# Altium integrated library Texas Instruments Power Management PWM Controller.IntLib: 1227 symbols (part 37 of 49)
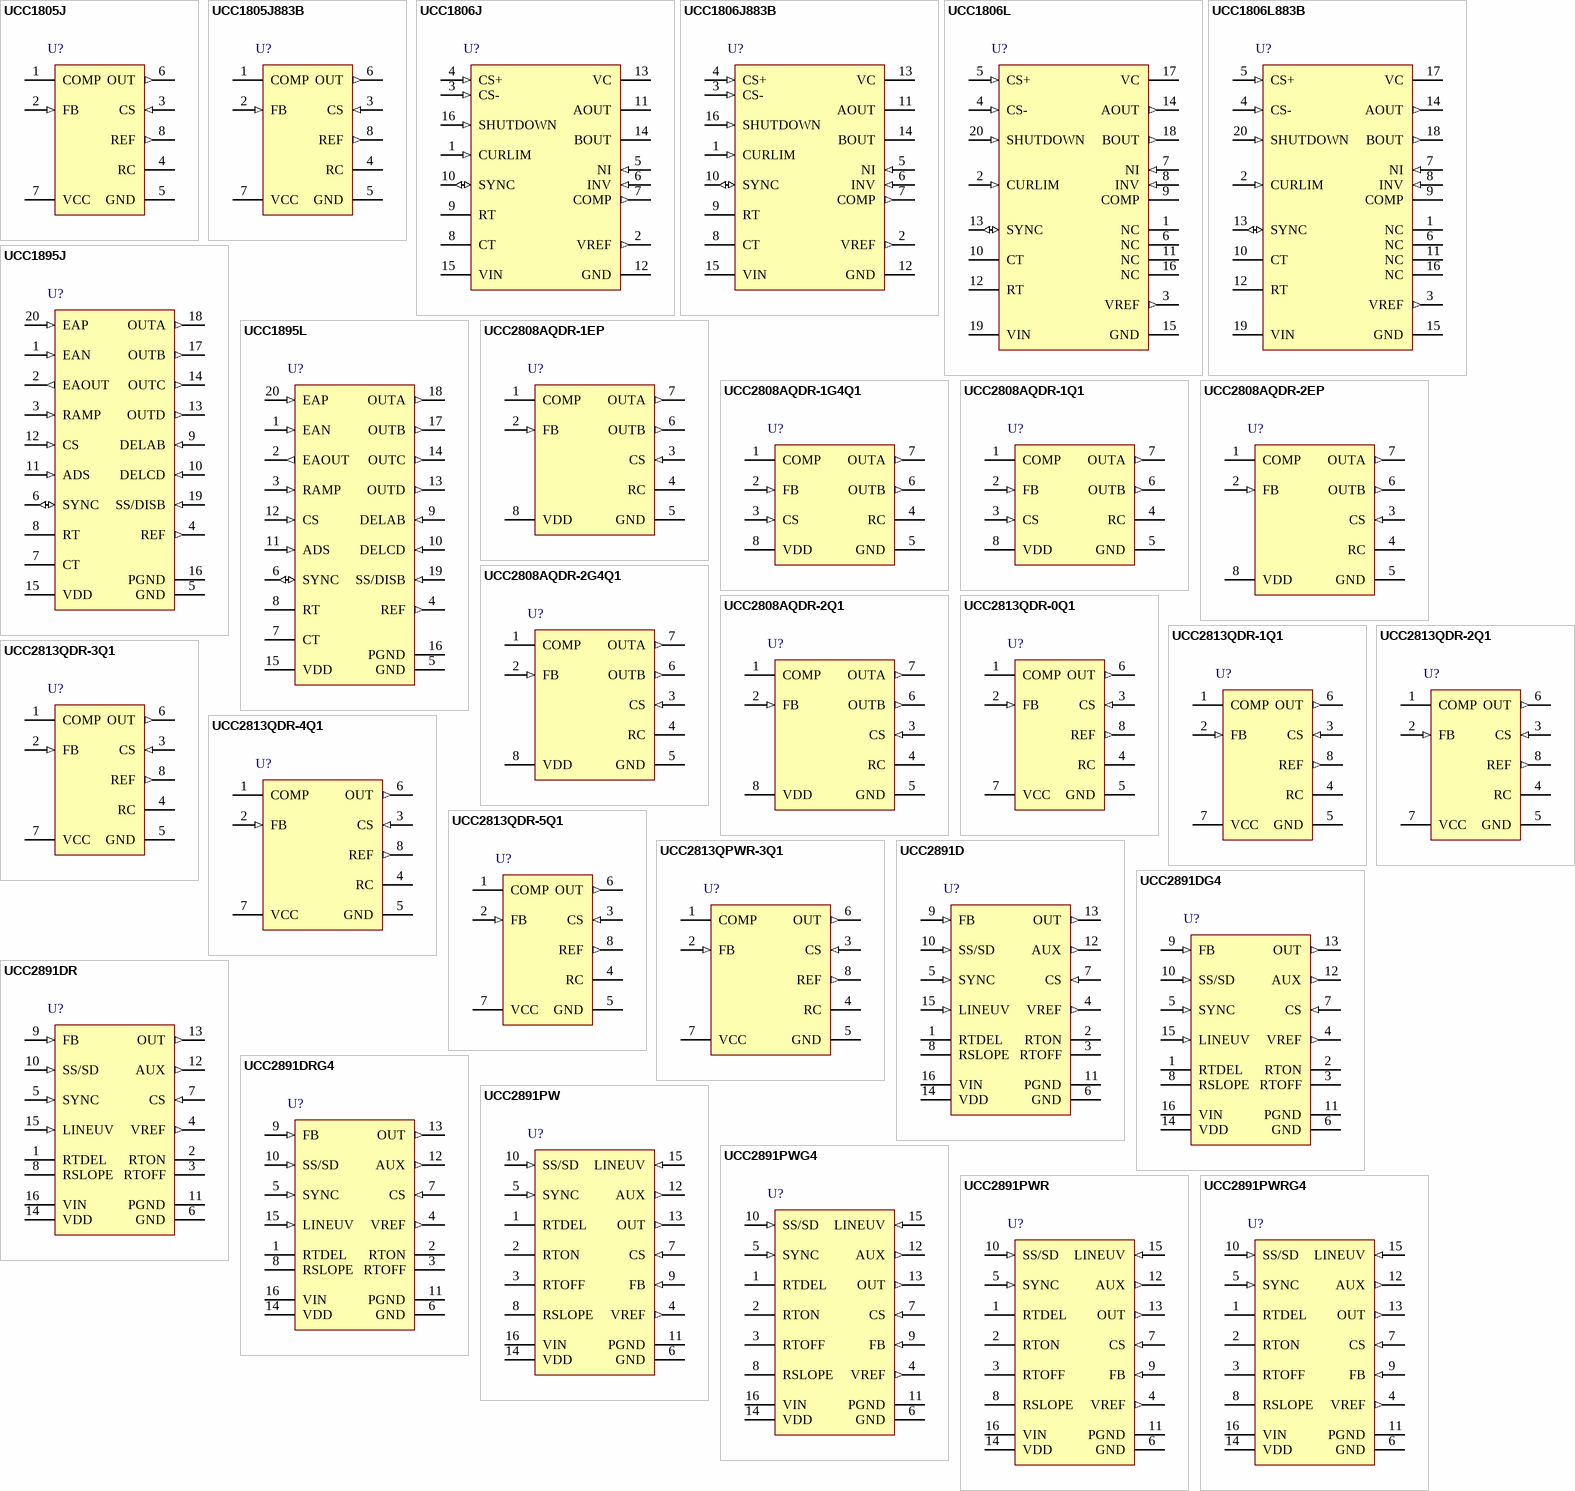
[diagram p79: symbols UCC1805J to UCC2891PWRG4]

## UCC2891DRG4
designator U?
Current-Mode Active Clamp PWM Controller, -40 to +85 degC, 16-pin SOIC (D), Green (RoHS & no Sb/Br); PartNumber: UCC2891DRG4; Manufacturer: Texas Instruments; Frequency(Max)(kHz): 1000; Input Line Monitor: TRUE; Rating: Catalog; Regulated Outputs(#): 1; Topology: Flyback, Forward; UVLO Thresholds On/Off(V): 13.0/8.0; DatasheetVersion: SLUS542F; PackageVersion: revM, Jun-2011; PackageReference: D16; PackageDescription: 16-Pin Plastic Small Outline Integrated Circuit, 9.9 x 3.9 mm, Pitch 1.27 mm Pitch; Supplier 1: Digi-Key; Supplier Part Number 1: UCC2891DRG4-ND; Supplier 2: Newark; Supplier Part Number 2: 54K2053; Supplier 3: Mouser; Supplier Part Number 3: 595-UCC2891DRG4; Control Method: Current; Eco-Plan: Green (RoHS & no Sb/Br); SubFamily: PWM Controller; Mounting Technology: Surface Mount; Code_JEDEC: MS-012AC; ComponentLink1Description: Datasheet; ComponentLink1URL: http://www.ti.com/general/docs/lit/getliterature.tsp?genericPartNumber=UCC2891&fileType=pdf
footprint D16_N (SOIC, 16-Leads, Body 9.9x3.9mm, Pitch 1.27mm, IPC Medium Density)
footprint D16_L (SOIC, 16-Leads, Body 9.9x3.9mm, Pitch 1.27mm, IPC High Density)
footprint D16_M (SOIC, 16-Leads, Body 9.9x3.9mm, Pitch 1.27mm, IPC Low Density)
pins: 1 RTDEL "A resistor from this pin to GND programs the turn-on delay of the two gate drive outputs to accommodate the resonant transitions of the active clamp power converter.", 2 RTON "A resistor connected from this pin to GND programs an internal current source that charges the internal timing capacitor", 3 RTOFF "A resistor connected from this pin to GND programs an internal current source that discharges the internal timing capacitor.", 4 VREF (out) "This is the 5-V reference voltage that can be utilized for an external load of up to 5 mA. Since this reference provides the supply rail for internal logic, it should be bypassed to AGND as close as possible to the device. (See Datasheet)", 5 SYNC (in) "The SYNC pin serves as a unidirectional synchronization input for the internal oscillator. The synchronization function is implemented such that the user programmable maximum duty cycle (set by RTON and RTOFF) remains (See Datasheet)", 6 GND (power) "This pin serves as the fundamental analog ground for the PWM control circuitry. This pin should be connected to PGND directly at the device.", 7 CS (in) "This pin is used to sense the peak current utilized for current mode control and for current limiting functions. The peak signal which can be applied to this pin before pulse-by-pulse current limiting activates is (See Datasheet)", 8 RSLOPE "A resistor connected from this pin to GND programs an internal current source that sets the slope compensation ramp for the current mode control circuitry.", 9 FB (in) "This pin is used to bring the error signal from an external optocoupler or error amplifier into the PWM control circuitry. Often, there is a resistor tied from FB to VREF, and an optocoupler is used to pull the control pin (See Datasheet)", 10 SS/SD (in) "A capacitor from SS/SD to ground is charged by an internal current source of IRTON to program the soft-start interval for the controller. During a fault condition this capacitor is discharged by a current source equal to (See Datasheet)", 11 PGND (power) "The PGND should serve as the current return for the high-current output drivers OUT and AUX. Ideally, the current path from the outputs to the switching devices, and back would be as short as possible, and enclose a minimal (See Datasheet)", 12 AUX (out) "This output drives the auxiliary clamp MOSFET which is turned on when the main PWM switching device is turned off. The AUX pin can directly drive the auxiliary switch with 2-A source turn-on current and 2-A sink turn-off (See Datasheet)", 13 OUT (out) "This output pin drives the main PWM switching element MOSFET in an active clamp controller. It can directly drive an N-channel device with 2-A source turn-on current and 2-A sink turn-off current. A 10?k ohm resistor is (See Datasheet)", 14 VDD (power) "This is the power supply for the device. There should be a 1-μF capacitor directly from VDD to PGND. The capacitor value should be minimum 10 times greater than that on VREF. PGND and GND should be connected externally and (See Datasheet)", 15 LINEUV (in) "This pin provides a means to accurately enable/disable the power converter stage by monitoring the bulk input voltage or another parameter. When the circuit initially starts (or restarts from a disabled condition), a rising (See Datasheet)", 16 VIN (power) "For the UCC2891, this pin is connected to the input power rail directly. Inside the device, a high-voltage start-up device is utilized to provide the start-up current for the controller until a bootstrap type bias rail (See Datasheet)"

## UCC2891PW
designator U?
Current-Mode Active Clamp PWM Controller, -40 to +85 degC, 16-pin TSSOP (PW), Green (RoHS & no Sb/Br); PartNumber: UCC2891PW; Manufacturer: Texas Instruments; Frequency(Max)(kHz): 1000; Input Line Monitor: TRUE; Rating: Catalog; Regulated Outputs(#): 1; Topology: Flyback, Forward; UVLO Thresholds On/Off(V): 13.0/8.0; DatasheetVersion: SLUS542F; PackageVersion: revG, Feb-2011; PackageReference: PW16; PackageDescription: 16-Pin Plastic Thin Small Outline Package 5 x 4.4 mm Body ,0.65 mm Pitch; Supplier 1: Digi-Key; Supplier Part Number 1: 296-17240-5-ND; Supplier 2: Newark; Supplier Part Number 2: 21J9294; Supplier 3: Mouser; Supplier Part Number 3: 595-UCC2891PW; Control Method: Current; Eco-Plan: Green (RoHS & no Sb/Br); SubFamily: PWM Controller; Mounting Technology: Surface Mount; Code_JEDEC: MO-153; ComponentLink1Description: Datasheet; ComponentLink1URL: http://www.ti.com/general/docs/lit/getliterature.tsp?genericPartNumber=UCC2891&fileType=pdf
footprint PW16_N (TSOP, 16-Leads, Body 5x4.4mm, Pitch 0.65mm, IPC Medium Density)
footprint PW16_L (TSOP, 16-Leads, Body 5x4.4mm, Pitch 0.65mm, IPC High Density)
footprint PW16_M (TSOP, 16-Leads, Body 5x4.4mm, Pitch 0.65mm, IPC Low Density)
pins: 1 RTDEL "A resistor from this pin to GND programs the turn-on delay of the two gate drive outputs to accommodate the resonant transitions of the active clamp power converter.", 2 RTON "A resistor connected from this pin to GND programs an internal current source that charges the internal timing capacitor.", 3 RTOFF "A resistor connected from this pin to GND programs an internal current source that discharges the internal timing capacitor.", 4 VREF (out) "This is the 5-V reference voltage that can be utilized for an external load of up to 5 mA. Since this reference provides the supply rail for internal logic, it should be bypassed to AGND as close as possible to the device. (See Datasheet)", 5 SYNC (in) "The SYNC pin serves as a unidirectional synchronization input for the internal oscillator. The synchronization function is implemented such that the user programmable maximum duty cycle (set by RTON and RTOFF) remains (See Datasheet)", 6 GND (power) "This pin serves as the fundamental analog ground for the PWM control circuitry. This pin should be connected to PGND directly at the device.", 7 CS (in) "This pin is used to sense the peak current utilized for current mode control and for current limiting functions. The peak signal which can be applied to this pin before pulse-by-pulse current limiting activates is (See Datasheet)", 8 RSLOPE "A resistor connected from this pin to GND programs an internal current source that sets the slope compensation ramp for the current mode control circuitry.", 9 FB (in) "This pin is used to bring the error signal from an external optocoupler or error amplifier into the PWM control circuitry. Often, there is a resistor tied from FB to VREF, and an optocoupler is used to pull the control pin (See Datasheet)", 10 SS/SD (in) "A capacitor from SS/SD to ground is charged by an internal current source of IRTON to program the soft-start interval for the controller. During a fault condition this capacitor is discharged by a current source equal to (See Datasheet)", 11 PGND (power) "The PGND should serve as the current return for the high-current output drivers OUT and AUX. Ideally, the current path from the outputs to the switching devices, and back would be as short as possible, and enclose a minimal (See Datasheet)", 12 AUX (out) "This output drives the auxiliary clamp MOSFET which is turned on when the main PWM switching device is turned off. The AUX pin can directly drive the auxiliary switch with 2-A source turn-on current and 2-A sink turn-off (See Datasheet)", 13 OUT (out) "This output pin drives the main PWM switching element MOSFET in an active clamp controller. It can directly drive an N-channel device with 2-A source turn-on current and 2-A sink turn-off current. A 10-k ohm resistor is (See Datasheet)", 14 VDD (power) "This is the power supply for the device. There should be a 1-uF capacitor directly from VDD to PGND. The capacitor value should be minimum 10 times greater than that on VREF. PGND and GND should be connected externally and (See Datasheet)", 15 LINEUV (in) "This pin provides a means to accurately enable/disable the power converter stage by monitoring the bulk input voltage or another parameter. When the circuit initially starts (or restarts from a disabled condition), a rising (See Datasheet)", 16 VIN (power) "For the UCC2891 and UCC2893, this pin is connected to the input power rail directly. Inside the device, a high-voltage start-up device is utilized to provide the start-up current for the controller until a bootstrap type (See Datasheet)"

## UCC2891PWG4
designator U?
Current-Mode Active Clamp PWM Controller, -40 to +85 degC, 16-pin TSSOP (PW), Green (RoHS & no Sb/Br); PartNumber: UCC2891PWG4; Manufacturer: Texas Instruments; Frequency(Max)(kHz): 1000; Input Line Monitor: TRUE; Rating: Catalog; Regulated Outputs(#): 1; Topology: Flyback, Forward; UVLO Thresholds On/Off(V): 13.0/8.0; DatasheetVersion: SLUS542F; PackageVersion: revG, Feb-2011; PackageReference: PW16; PackageDescription: 16-Pin Plastic Thin Small Outline Package 5 x 4.4 mm Body ,0.65 mm Pitch; Supplier 1: Digi-Key; Supplier Part Number 1: UCC2891PWG4-ND; Supplier 2: Newark; Supplier Part Number 2: 81K4484; Supplier 3: Mouser; Supplier Part Number 3: 595-UCC2891PWG4; Control Method: Current; Eco-Plan: Green (RoHS & no Sb/Br); SubFamily: PWM Controller; Mounting Technology: Surface Mount; Code_JEDEC: MO-153; ComponentLink1Description: Datasheet; ComponentLink1URL: http://www.ti.com/general/docs/lit/getliterature.tsp?genericPartNumber=UCC2891&fileType=pdf
footprint PW16_N (TSOP, 16-Leads, Body 5x4.4mm, Pitch 0.65mm, IPC Medium Density)
footprint PW16_L (TSOP, 16-Leads, Body 5x4.4mm, Pitch 0.65mm, IPC High Density)
footprint PW16_M (TSOP, 16-Leads, Body 5x4.4mm, Pitch 0.65mm, IPC Low Density)
pins: 1 RTDEL "A resistor from this pin to GND programs the turn-on delay of the two gate drive outputs to accommodate the resonant transitions of the active clamp power converter.", 2 RTON "A resistor connected from this pin to GND programs an internal current source that charges the internal timing capacitor.", 3 RTOFF "A resistor connected from this pin to GND programs an internal current source that discharges the internal timing capacitor.", 4 VREF (out) "This is the 5-V reference voltage that can be utilized for an external load of up to 5 mA. Since this reference provides the supply rail for internal logic, it should be bypassed to AGND as close as possible to the device. (See Datasheet)", 5 SYNC (in) "The SYNC pin serves as a unidirectional synchronization input for the internal oscillator. The synchronization function is implemented such that the user programmable maximum duty cycle (set by RTON and RTOFF) remains (See Datasheet)", 6 GND (power) "This pin serves as the fundamental analog ground for the PWM control circuitry. This pin should be connected to PGND directly at the device.", 7 CS (in) "This pin is used to sense the peak current utilized for current mode control and for current limiting functions. The peak signal which can be applied to this pin before pulse-by-pulse current limiting activates is (See Datasheet)", 8 RSLOPE "A resistor connected from this pin to GND programs an internal current source that sets the slope compensation ramp for the current mode control circuitry.", 9 FB (in) "This pin is used to bring the error signal from an external optocoupler or error amplifier into the PWM control circuitry. Often, there is a resistor tied from FB to VREF, and an optocoupler is used to pull the control pin (See Datasheet)", 10 SS/SD (in) "A capacitor from SS/SD to ground is charged by an internal current source of IRTON to program the soft-start interval for the controller. During a fault condition this capacitor is discharged by a current source equal to (See Datasheet)", 11 PGND (power) "The PGND should serve as the current return for the high-current output drivers OUT and AUX. Ideally, the current path from the outputs to the switching devices, and back would be as short as possible, and enclose a minimal (See Datasheet)", 12 AUX (out) "This output drives the auxiliary clamp MOSFET which is turned on when the main PWM switching device is turned off. The AUX pin can directly drive the auxiliary switch with 2-A source turn-on current and 2-A sink turn-off (See Datasheet)", 13 OUT (out) "This output pin drives the main PWM switching element MOSFET in an active clamp controller. It can directly drive an N-channel device with 2-A source turn-on current and 2-A sink turn-off current. A 10-k ohm resistor is (See Datasheet)", 14 VDD (power) "This is the power supply for the device. There should be a 1-uF capacitor directly from VDD to PGND. The capacitor value should be minimum 10 times greater than that on VREF. PGND and GND should be connected externally and (See Datasheet)", 15 LINEUV (in) "This pin provides a means to accurately enable/disable the power converter stage by monitoring the bulk input voltage or another parameter. When the circuit initially starts (or restarts from a disabled condition), a rising (See Datasheet)", 16 VIN (power) "For the UCC2891 and UCC2893, this pin is connected to the input power rail directly. Inside the device, a high-voltage start-up device is utilized to provide the start-up current for the controller until a bootstrap type (See Datasheet)"

## UCC2891PWR
designator U?
Active Clamp PWM Controller with Current Control, -40 to +85 degC, 16-pin TSSOP (PW), Green (RoHS & no Sb/Br); PartNumber: UCC2891PWR; Manufacturer: Texas Instruments; Frequency(Max)(kHz): 1000; Input Line Monitor: TRUE; Rating: Catalog; Regulated Outputs(#): 1; Topology: Flyback, Forward; UVLO Thresholds On/Off(V): 13.0/8.0; DatasheetVersion: SLUS542F; PackageVersion: revG, Feb-2011; PackageReference: PW16; PackageDescription: 16-Pin Plastic Thin Small Outline Package 5 x 4.4 mm Body ,0.65 mm Pitch; Supplier 1: Newark; Supplier Part Number 1: 21J9295; Supplier 2: Mouser; Supplier Part Number 2: 595-UCC2891PWR; Control Method: Current; Eco-Plan: Green (RoHS & no Sb/Br); SubFamily: PWM Controller; Mounting Technology: Surface Mount; Code_JEDEC: MO-153; ComponentLink1Description: Datasheet; ComponentLink1URL: http://www.ti.com/general/docs/lit/getliterature.tsp?genericPartNumber=UCC2891&fileType=pdf
footprint PW16_N (TSOP, 16-Leads, Body 5x4.4mm, Pitch 0.65mm, IPC Medium Density)
footprint PW16_L (TSOP, 16-Leads, Body 5x4.4mm, Pitch 0.65mm, IPC High Density)
footprint PW16_M (TSOP, 16-Leads, Body 5x4.4mm, Pitch 0.65mm, IPC Low Density)
pins: 1 RTDEL "A resistor from this pin to GND programs the turn-on delay of the two gate drive outputs to accommodate the resonant transitions of the active clamp power converter.", 2 RTON "A resistor connected from this pin to GND programs an internal current source that charges the internal timing capacitor.", 3 RTOFF "A resistor connected from this pin to GND programs an internal current source that discharges the internal timing capacitor.", 4 VREF (out) "This is the 5-V reference voltage that can be utilized for an external load of up to 5 mA. Since this reference provides the supply rail for internal logic, it should be bypassed to AGND as close as possible to the device. (See Datasheet)", 5 SYNC (in) "The SYNC pin serves as a unidirectional synchronization input for the internal oscillator. The synchronization function is implemented such that the user programmable maximum duty cycle (set by RTON and RTOFF) remains (See Datasheet)", 6 GND (power) "This pin serves as the fundamental analog ground for the PWM control circuitry. This pin should be connected to PGND directly at the device.", 7 CS (in) "This pin is used to sense the peak current utilized for current mode control and for current limiting functions. The peak signal which can be applied to this pin before pulse-by-pulse current limiting activates is (See Datasheet)", 8 RSLOPE "A resistor connected from this pin to GND programs an internal current source that sets the slope compensation ramp for the current mode control circuitry.", 9 FB (in) "This pin is used to bring the error signal from an external optocoupler or error amplifier into the PWM control circuitry. Often, there is a resistor tied from FB to VREF, and an optocoupler is used to pull the control pin (See Datasheet)", 10 SS/SD (in) "A capacitor from SS/SD to ground is charged by an internal current source of IRTON to program the soft-start interval for the controller. During a fault condition this capacitor is discharged by a current source equal to (See Datasheet)", 11 PGND (power) "The PGND should serve as the current return for the high-current output drivers OUT and AUX. Ideally, the current path from the outputs to the switching devices, and back would be as short as possible, and enclose a minimal (See Datasheet)", 12 AUX (out) "This output drives the auxiliary clamp MOSFET which is turned on when the main PWM switching device is turned off. The AUX pin can directly drive the auxiliary switch with 2-A source turn-on current and 2-A sink turn-off (See Datasheet)", 13 OUT (out) "This output pin drives the main PWM switching element MOSFET in an active clamp controller. It can directly drive an N-channel device with 2-A source turn-on current and 2-A sink turn-off current. A 10-k ohm resistor is (See Datasheet)", 14 VDD (power) "This is the power supply for the device. There should be a 1-uF capacitor directly from VDD to PGND. The capacitor value should be minimum 10 times greater than that on VREF. PGND and GND should be connected externally and (See Datasheet)", 15 LINEUV (in) "This pin provides a means to accurately enable/disable the power converter stage by monitoring the bulk input voltage or another parameter. When the circuit initially starts (or restarts from a disabled condition), a rising (See Datasheet)", 16 VIN (power) "For the UCC2891 and UCC2893, this pin is connected to the input power rail directly. Inside the device, a high-voltage start-up device is utilized to provide the start-up current for the controller until a bootstrap type (See Datasheet)"

## UCC2891PWRG4
designator U?
Active Clamp PWM Controller with Current Control, -40 to +85 degC, 16-pin TSSOP (PW), Green (RoHS & no Sb/Br); PartNumber: UCC2891PWRG4; Manufacturer: Texas Instruments; Frequency(Max)(kHz): 1000; Rating: Catalog; Regulated Outputs(#): 1; Topology: Flyback, Forward; UVLO Thresholds On/Off(V): 13.0/8.0; DatasheetVersion: SLUS542F; PackageVersion: revG, Feb-2011; PackageReference: PW16; PackageDescription: 16-Pin Plastic Thin Small Outline Package 5 x 4.4 mm Body ,0.65 mm Pitch; Supplier 1: Newark; Supplier Part Number 1: 54K2054; Supplier 2: Mouser; Supplier Part Number 2: 595-UCC2891PWRG4; Control Method: Current; Eco-Plan: Green (RoHS & no Sb/Br); SubFamily: PWM Controller; Mounting Technology: Surface Mount; Code_JEDEC: MO-153; ComponentLink1Description: Datasheet; ComponentLink1URL: http://www.ti.com/general/docs/lit/getliterature.tsp?genericPartNumber=UCC2891&fileType=pdf; ComponentLink2Description: URL Link1; ComponentLink2URL: Samples URL:http://www.ti.com/lit/ds/symlink/ucc2891.pdf
footprint PW16_N (TSOP, 16-Leads, Body 5x4.4mm, Pitch 0.65mm, IPC Medium Density)
footprint PW16_L (TSOP, 16-Leads, Body 5x4.4mm, Pitch 0.65mm, IPC High Density)
footprint PW16_M (TSOP, 16-Leads, Body 5x4.4mm, Pitch 0.65mm, IPC Low Density)
pins: 1 RTDEL "A resistor from this pin to GND programs the turn-on delay of the two gate drive outputs to accommodate the resonant transitions of the active clamp power converter.", 2 RTON "A resistor connected from this pin to GND programs an internal current source that charges the internal timing capacitor.", 3 RTOFF "A resistor connected from this pin to GND programs an internal current source that discharges the internal timing capacitor.", 4 VREF (out) "This is the 5-V reference voltage that can be utilized for an external load of up to 5 mA. Since this reference provides the supply rail for internal logic, it should be bypassed to AGND as close as possible to the device. (See Datasheet)", 5 SYNC (in) "The SYNC pin serves as a unidirectional synchronization input for the internal oscillator. The synchronization function is implemented such that the user programmable maximum duty cycle (set by RTON and RTOFF) remains (See Datasheet)", 6 GND (power) "This pin serves as the fundamental analog ground for the PWM control circuitry. This pin should be connected to PGND directly at the device.", 7 CS (in) "This pin is used to sense the peak current utilized for current mode control and for current limiting functions. The peak signal which can be applied to this pin before pulse-by-pulse current limiting activates is (See Datasheet)", 8 RSLOPE "A resistor connected from this pin to GND programs an internal current source that sets the slope compensation ramp for the current mode control circuitry.", 9 FB (in) "This pin is used to bring the error signal from an external optocoupler or error amplifier into the PWM control circuitry. Often, there is a resistor tied from FB to VREF, and an optocoupler is used to pull the control pin (See Datasheet)", 10 SS/SD (in) "A capacitor from SS/SD to ground is charged by an internal current source of IRTON to program the soft-start interval for the controller. During a fault condition this capacitor is discharged by a current source equal to (See Datasheet)", 11 PGND (power) "The PGND should serve as the current return for the high-current output drivers OUT and AUX. Ideally, the current path from the outputs to the switching devices, and back would be as short as possible, and enclose a minimal (See Datasheet)", 12 AUX (out) "This output drives the auxiliary clamp MOSFET which is turned on when the main PWM switching device is turned off. The AUX pin can directly drive the auxiliary switch with 2-A source turn-on current and 2-A sink turn-off (See Datasheet)", 13 OUT (out) "This output pin drives the main PWM switching element MOSFET in an active clamp controller. It can directly drive an N-channel device with 2-A source turn-on current and 2-A sink turn-off current. A 10-k ohm resistor is (See Datasheet)", 14 VDD (power) "This is the power supply for the device. There should be a 1-uF capacitor directly from VDD to PGND. The capacitor value should be minimum 10 times greater than that on VREF. PGND and GND should be connected externally and (See Datasheet)", 15 LINEUV (in) "This pin provides a means to accurately enable/disable the power converter stage by monitoring the bulk input voltage or another parameter. When the circuit initially starts (or restarts from a disabled condition), a rising (See Datasheet)", 16 VIN (power) "For the UCC2891 and UCC2893, this pin is connected to the input power rail directly. Inside the device, a high-voltage start-up device is utilized to provide the start-up current for the controller until a bootstrap type (See Datasheet)"

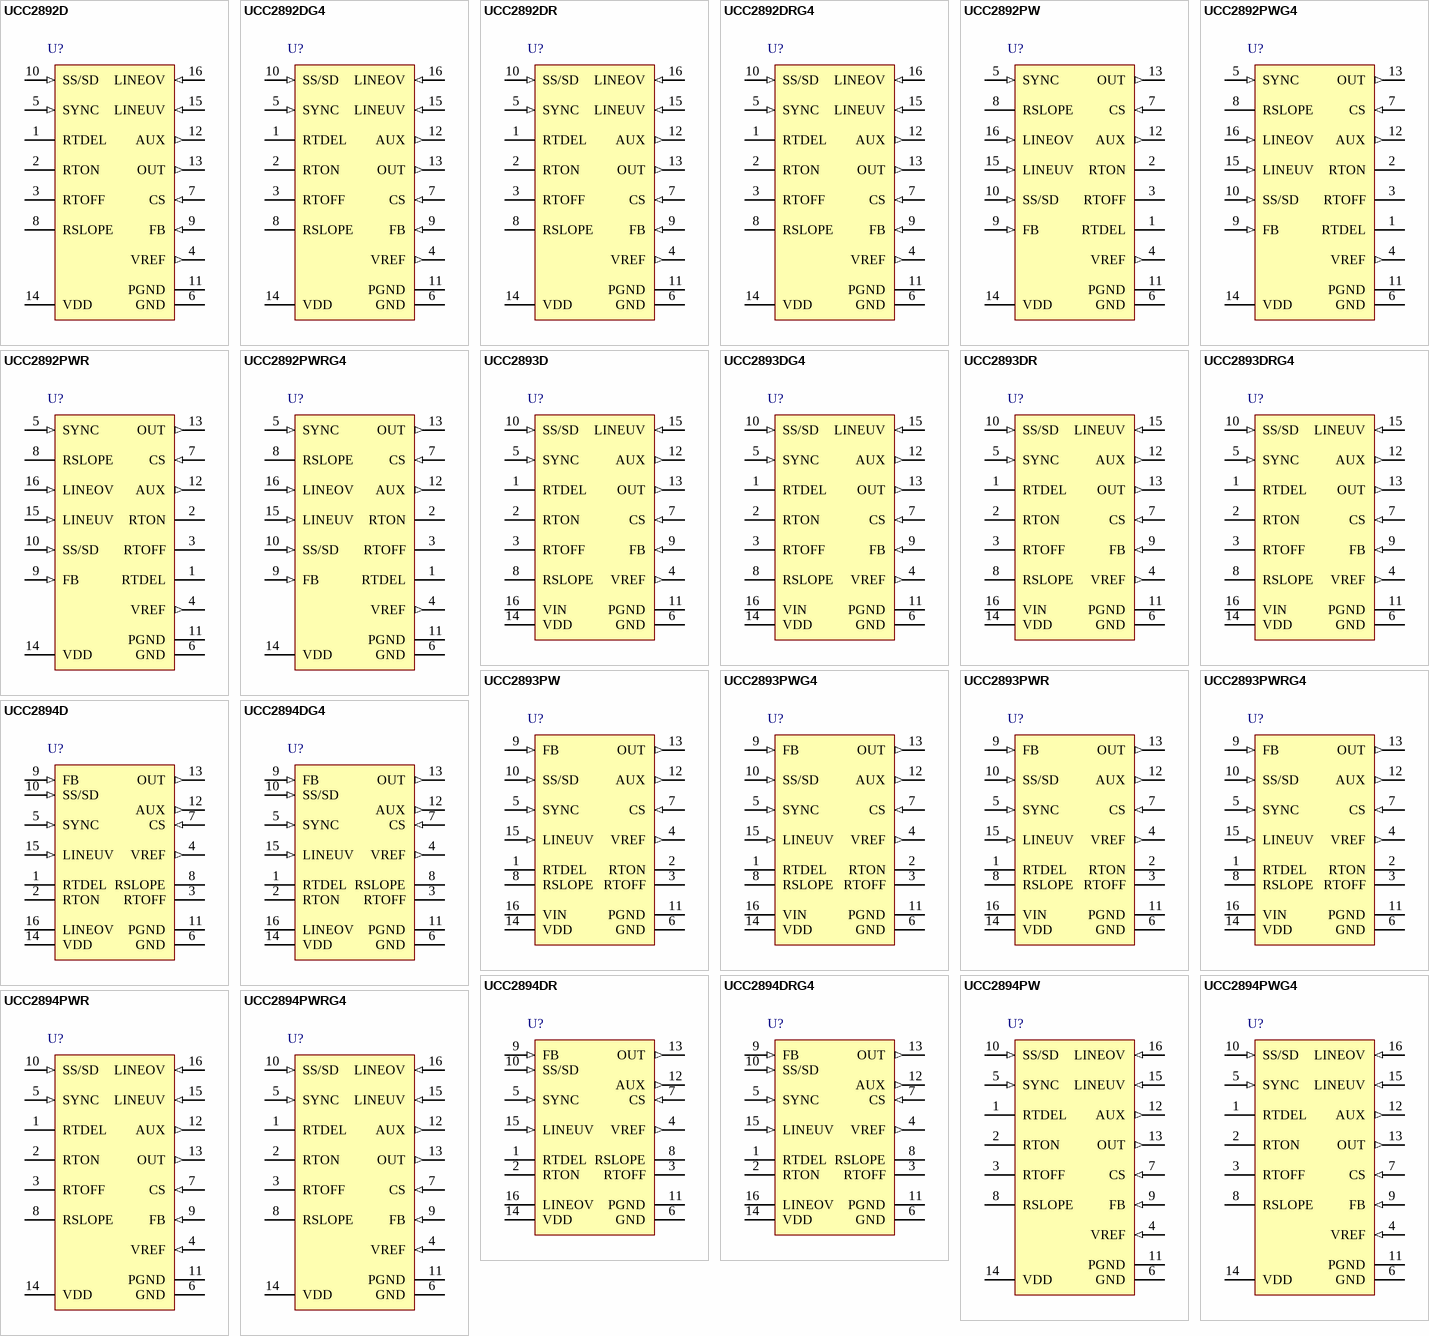
[diagram p38: symbols UCC2892D to UCC2894PWRG4]

## UCC2892D
designator U?
Active Clamp PWM Controller with Current Control, -40 to +85 degC, 16-pin SOIC (D), Green (RoHS & no Sb/Br); PartNumber: UCC2892D; Manufacturer: Texas Instruments; Frequency(Max)(kHz): 1000; Input Line Monitor: TRUE; Rating: Catalog; Regulated Outputs(#): 1; Topology: Flyback, Forward; UVLO Thresholds On/Off(V): 13.0/8.0; DatasheetVersion: SLUS542F; PackageVersion: revM, Jun-2011; PackageReference: D16; PackageDescription: 16-Pin Plastic Small Outline Integrated Circuit, 9.9 x 3.9 mm, Pitch 1.27 mm Pitch; Supplier 1: Digi-Key; Supplier Part Number 1: 296-15884-5-ND; Supplier 2: Farnell; Supplier Part Number 2: 8462941; Supplier 3: Newark; Supplier Part Number 3: 87H4698; Supplier 4: Mouser; Supplier Part Number 4: 595-UCC2892D; Control Method: Current; Eco-Plan: Green (RoHS & no Sb/Br); SubFamily: PWM Controller; Mounting Technology: Surface Mount; Code_JEDEC: MS-012AC; ComponentLink1Description: Datasheet; ComponentLink1URL: http://www.ti.com/general/docs/lit/getliterature.tsp?genericPartNumber=UCC2892&fileType=pdf
footprint D16_N (SOIC, 16-Leads, Body 9.9x3.9mm, Pitch 1.27mm, IPC Medium Density)
footprint D16_L (SOIC, 16-Leads, Body 9.9x3.9mm, Pitch 1.27mm, IPC High Density)
footprint D16_M (SOIC, 16-Leads, Body 9.9x3.9mm, Pitch 1.27mm, IPC Low Density)
pins: 1 RTDEL "A resistor from this pin to GND programs the turn-on delay of the two gate drive outputs to accommodate the resonant transitions of the active clamp power converter.", 2 RTON "A resistor connected from this pin to GND programs an internal current source that charges the internal timing capacitor.", 3 RTOFF "A resistor connected from this pin to GND programs an internal current source that discharges the internal timing capacitor.", 4 VREF (out) "This is the 5-V reference voltage that can be utilized for an external load of up to 5 mA. Since this reference provides the supply rail for internal logic, it should be bypassed to AGND as close as possible to the device. (See Datasheet)", 5 SYNC (in) "The SYNC pin serves as a unidirectional synchronization input for the internal oscillator. The synchronization function is implemented such that the user programmable maximum duty cycle (set by RTON and RTOFF) remains (See Datasheet)", 6 GND (power) "This pin serves as the fundamental analog ground for the PWM control circuitry. This pin should be connected to PGND directly at the device.", 7 CS (in) "This pin is used to sense the peak current utilized for current mode control and for current limiting functions. The peak signal which can be applied to this pin before pulse-by-pulse current limiting activates is (See Datasheet)", 8 RSLOPE "A resistor connected from this pin to GND programs an internal current source that sets the slope compensation ramp for the current mode control circuitry.", 9 FB (in) "This pin is used to bring the error signal from an external optocoupler or error amplifier into the PWM control circuitry. Often, there is a resistor tied from FB to VREF, and an optocoupler is used to pull the control pin (See Datasheet)", 10 SS/SD (in) "A capacitor from SS/SD to ground is charged by an internal current source of IRTON to program the soft-start interval for the controller. During a fault condition this capacitor is discharged by a current source equal to (See Datasheet)", 11 PGND (power) "The PGND should serve as the current return for the high-current output drivers OUT and AUX. Ideally, the current path from the outputs to the switching devices, and back would be as short as possible, and enclose a minimal (See Datasheet)", 12 AUX (out) "This output drives the auxiliary clamp MOSFET which is turned on when the main PWM switching device is turned off. The AUX pin can directly drive the auxiliary switch with 2-A source turn-on current and 2-A sink turn-off (See Datasheet)", 13 OUT (out) "This output pin drives the main PWM switching element MOSFET in an active clamp controller. It can directly drive an N-channel device with 2-A source turn-on current and 2-A sink turn-off current. A 10?k ohm resistor is (See Datasheet)", 14 VDD (power) "This is the power supply for the device. There should be a 1-uF capacitor directly from VDD to PGND. The capacitor value should be minimum 10 times greater than that on VREF. PGND and GND should be connected externally and (See Datasheet)", 15 LINEUV (in) "This pin provides a means to accurately enable/disable the power converter stage by monitoring the bulk input voltage or another parameter. When the circuit initially starts (or restarts from a disabled condition), a rising (See Datasheet)", 16 LINEOV (in) "For the UCC2892, provides the LINE overvoltage function."

## UCC2892DG4
designator U?
Active Clamp PWM Controller with Current Control, -40 to +85 degC, 16-pin SOIC (D), Green (RoHS & no Sb/Br); PartNumber: UCC2892DG4; Manufacturer: Texas Instruments; Frequency(Max)(kHz): 1000; Input Line Monitor: TRUE; Rating: Catalog; Regulated Outputs(#): 1; Topology: Flyback, Forward; UVLO Thresholds On/Off(V): 13.0/8.0; DatasheetVersion: SLUS542F; PackageVersion: revM, Jun-2011; PackageReference: D16; PackageDescription: 16-Pin Plastic Small Outline Integrated Circuit, 9.9 x 3.9 mm, Pitch 1.27 mm Pitch; Supplier 1: Digi-Key; Supplier Part Number 1: UCC2892DG4-ND; Supplier 2: Newark; Supplier Part Number 2: 04M0323; Supplier 3: Mouser; Supplier Part Number 3: 595-UCC2892DG4; Control Method: Current; Eco-Plan: Green (RoHS & no Sb/Br); SubFamily: PWM Controller; Mounting Technology: Surface Mount; Code_JEDEC: MS-012AC; ComponentLink1Description: Datasheet; ComponentLink1URL: http://www.ti.com/general/docs/lit/getliterature.tsp?genericPartNumber=UCC2892&fileType=pdf
footprint D16_N (SOIC, 16-Leads, Body 9.9x3.9mm, Pitch 1.27mm, IPC Medium Density)
footprint D16_L (SOIC, 16-Leads, Body 9.9x3.9mm, Pitch 1.27mm, IPC High Density)
footprint D16_M (SOIC, 16-Leads, Body 9.9x3.9mm, Pitch 1.27mm, IPC Low Density)
pins: 1 RTDEL "A resistor from this pin to GND programs the turn-on delay of the two gate drive outputs to accommodate the resonant transitions of the active clamp power converter.", 2 RTON "A resistor connected from this pin to GND programs an internal current source that charges the internal timing capacitor.", 3 RTOFF "A resistor connected from this pin to GND programs an internal current source that discharges the internal timing capacitor.", 4 VREF (out) "This is the 5-V reference voltage that can be utilized for an external load of up to 5 mA. Since this reference provides the supply rail for internal logic, it should be bypassed to AGND as close as possible to the device. (See Datasheet)", 5 SYNC (in) "The SYNC pin serves as a unidirectional synchronization input for the internal oscillator. The synchronization function is implemented such that the user programmable maximum duty cycle (set by RTON and RTOFF) remains (See Datasheet)", 6 GND (power) "This pin serves as the fundamental analog ground for the PWM control circuitry. This pin should be connected to PGND directly at the device.", 7 CS (in) "This pin is used to sense the peak current utilized for current mode control and for current limiting functions. The peak signal which can be applied to this pin before pulse-by-pulse current limiting activates is (See Datasheet)", 8 RSLOPE "A resistor connected from this pin to GND programs an internal current source that sets the slope compensation ramp for the current mode control circuitry.", 9 FB (in) "This pin is used to bring the error signal from an external optocoupler or error amplifier into the PWM control circuitry. Often, there is a resistor tied from FB to VREF, and an optocoupler is used to pull the control pin (See Datasheet)", 10 SS/SD (in) "A capacitor from SS/SD to ground is charged by an internal current source of IRTON to program the soft-start interval for the controller. During a fault condition this capacitor is discharged by a current source equal to (See Datasheet)", 11 PGND (power) "The PGND should serve as the current return for the high-current output drivers OUT and AUX. Ideally, the current path from the outputs to the switching devices, and back would be as short as possible, and enclose a minimal (See Datasheet)", 12 AUX (out) "This output drives the auxiliary clamp MOSFET which is turned on when the main PWM switching device is turned off. The AUX pin can directly drive the auxiliary switch with 2-A source turn-on current and 2-A sink turn-off (See Datasheet)", 13 OUT (out) "This output pin drives the main PWM switching element MOSFET in an active clamp controller. It can directly drive an N-channel device with 2-A source turn-on current and 2-A sink turn-off current. A 10?k ohm resistor is (See Datasheet)", 14 VDD (power) "This is the power supply for the device. There should be a 1-uF capacitor directly from VDD to PGND. The capacitor value should be minimum 10 times greater than that on VREF. PGND and GND should be connected externally and (See Datasheet)", 15 LINEUV (in) "This pin provides a means to accurately enable/disable the power converter stage by monitoring the bulk input voltage or another parameter. When the circuit initially starts (or restarts from a disabled condition), a rising (See Datasheet)", 16 LINEOV (in) "For the UCC2892, provides the LINE overvoltage function."

## UCC2892DR
designator U?
Active Clamp PWM Controller with Current Control, -40 to +85 degC, 16-pin SOIC (D), Green (RoHS & no Sb/Br); PartNumber: UCC2892DR; Manufacturer: Texas Instruments; Frequency(Max)(kHz): 1000; Input Line Monitor: TRUE; Rating: Catalog; Regulated Outputs(#): 1; Topology: Flyback, Forward; UVLO Thresholds On/Off(V): 13.0/8.0; DatasheetVersion: SLUS542F; PackageVersion: revM, Jun-2011; PackageReference: D16; PackageDescription: 16-Pin Plastic Small Outline Integrated Circuit, 9.9 x 3.9 mm, Pitch 1.27 mm Pitch; Supplier 1: Digi-Key; Supplier Part Number 1: UCC2892DR-ND; Supplier 2: Newark; Supplier Part Number 2: 87H4699; Supplier 3: Mouser; Supplier Part Number 3: 595-UCC2892DR; Control Method: Current; Eco-Plan: Green (RoHS & no Sb/Br); SubFamily: PWM Controller; Mounting Technology: Surface Mount; Code_JEDEC: MS-012AC; ComponentLink1Description: Datasheet; ComponentLink1URL: http://www.ti.com/general/docs/lit/getliterature.tsp?genericPartNumber=UCC2892&fileType=pdf
footprint D16_N (SOIC, 16-Leads, Body 9.9x3.9mm, Pitch 1.27mm, IPC Medium Density)
footprint D16_L (SOIC, 16-Leads, Body 9.9x3.9mm, Pitch 1.27mm, IPC High Density)
footprint D16_M (SOIC, 16-Leads, Body 9.9x3.9mm, Pitch 1.27mm, IPC Low Density)
pins: 1 RTDEL "A resistor from this pin to GND programs the turn-on delay of the two gate drive outputs to accommodate the resonant transitions of the active clamp power converter.", 2 RTON "A resistor connected from this pin to GND programs an internal current source that charges the internal timing capacitor.", 3 RTOFF "A resistor connected from this pin to GND programs an internal current source that discharges the internal timing capacitor.", 4 VREF (out) "This is the 5-V reference voltage that can be utilized for an external load of up to 5 mA. Since this reference provides the supply rail for internal logic, it should be bypassed to AGND as close as possible to the device. (See Datasheet)", 5 SYNC (in) "The SYNC pin serves as a unidirectional synchronization input for the internal oscillator. The synchronization function is implemented such that the user programmable maximum duty cycle (set by RTON and RTOFF) remains (See Datasheet)", 6 GND (power) "This pin serves as the fundamental analog ground for the PWM control circuitry. This pin should be connected to PGND directly at the device.", 7 CS (in) "This pin is used to sense the peak current utilized for current mode control and for current limiting functions. The peak signal which can be applied to this pin before pulse-by-pulse current limiting activates is (See Datasheet)", 8 RSLOPE "A resistor connected from this pin to GND programs an internal current source that sets the slope compensation ramp for the current mode control circuitry.", 9 FB (in) "This pin is used to bring the error signal from an external optocoupler or error amplifier into the PWM control circuitry. Often, there is a resistor tied from FB to VREF, and an optocoupler is used to pull the control pin (See Datasheet)", 10 SS/SD (in) "A capacitor from SS/SD to ground is charged by an internal current source of IRTON to program the soft-start interval for the controller. During a fault condition this capacitor is discharged by a current source equal to (See Datasheet)", 11 PGND (power) "The PGND should serve as the current return for the high-current output drivers OUT and AUX. Ideally, the current path from the outputs to the switching devices, and back would be as short as possible, and enclose a minimal (See Datasheet)", 12 AUX (out) "This output drives the auxiliary clamp MOSFET which is turned on when the main PWM switching device is turned off. The AUX pin can directly drive the auxiliary switch with 2-A source turn-on current and 2-A sink turn-off (See Datasheet)", 13 OUT (out) "This output pin drives the main PWM switching element MOSFET in an active clamp controller. It can directly drive an N-channel device with 2-A source turn-on current and 2-A sink turn-off current. A 10?k ohm resistor is (See Datasheet)", 14 VDD (power) "This is the power supply for the device. There should be a 1-uF capacitor directly from VDD to PGND. The capacitor value should be minimum 10 times greater than that on VREF. PGND and GND should be connected externally and (See Datasheet)", 15 LINEUV (in) "This pin provides a means to accurately enable/disable the power converter stage by monitoring the bulk input voltage or another parameter. When the circuit initially starts (or restarts from a disabled condition), a rising (See Datasheet)", 16 LINEOV (in) "For the UCC2892, provides the LINE overvoltage function."

## UCC2892DRG4
designator U?
Active Clamp PWM Controller with Current Control, -40 to +85 degC, 16-pin SOIC (D), Green (RoHS & no Sb/Br); PartNumber: UCC2892DRG4; Manufacturer: Texas Instruments; Frequency(Max)(kHz): 1000; Input Line Monitor: TRUE; Rating: Catalog; Regulated Outputs(#): 1; Topology: Flyback, Forward; UVLO Thresholds On/Off(V): 13.0/8.0; DatasheetVersion: SLUS542F; PackageVersion: revM, Jun-2011; PackageReference: D16; PackageDescription: 16-Pin Plastic Small Outline Integrated Circuit, 9.9 x 3.9 mm, Pitch 1.27 mm Pitch; Supplier 1: Digi-Key; Supplier Part Number 1: UCC2892DRG4-ND; Supplier 2: Newark; Supplier Part Number 2: 54K2055; Supplier 3: Mouser; Supplier Part Number 3: 595-UCC2892DRG4; Control Method: Current; Eco-Plan: Green (RoHS & no Sb/Br); SubFamily: PWM Controller; Mounting Technology: Surface Mount; Code_JEDEC: MS-012AC; ComponentLink1Description: Datasheet; ComponentLink1URL: http://www.ti.com/general/docs/lit/getliterature.tsp?genericPartNumber=UCC2892&fileType=pdf
footprint D16_N (SOIC, 16-Leads, Body 9.9x3.9mm, Pitch 1.27mm, IPC Medium Density)
footprint D16_L (SOIC, 16-Leads, Body 9.9x3.9mm, Pitch 1.27mm, IPC High Density)
footprint D16_M (SOIC, 16-Leads, Body 9.9x3.9mm, Pitch 1.27mm, IPC Low Density)
pins: 1 RTDEL "A resistor from this pin to GND programs the turn-on delay of the two gate drive outputs to accommodate the resonant transitions of the active clamp power converter.", 2 RTON "A resistor connected from this pin to GND programs an internal current source that charges the internal timing capacitor.", 3 RTOFF "A resistor connected from this pin to GND programs an internal current source that discharges the internal timing capacitor.", 4 VREF (out) "This is the 5-V reference voltage that can be utilized for an external load of up to 5 mA. Since this reference provides the supply rail for internal logic, it should be bypassed to AGND as close as possible to the device. (See Datasheet)", 5 SYNC (in) "The SYNC pin serves as a unidirectional synchronization input for the internal oscillator. The synchronization function is implemented such that the user programmable maximum duty cycle (set by RTON and RTOFF) remains (See Datasheet)", 6 GND (power) "This pin serves as the fundamental analog ground for the PWM control circuitry. This pin should be connected to PGND directly at the device.", 7 CS (in) "This pin is used to sense the peak current utilized for current mode control and for current limiting functions. The peak signal which can be applied to this pin before pulse-by-pulse current limiting activates is (See Datasheet)", 8 RSLOPE "A resistor connected from this pin to GND programs an internal current source that sets the slope compensation ramp for the current mode control circuitry.", 9 FB (in) "This pin is used to bring the error signal from an external optocoupler or error amplifier into the PWM control circuitry. Often, there is a resistor tied from FB to VREF, and an optocoupler is used to pull the control pin (See Datasheet)", 10 SS/SD (in) "A capacitor from SS/SD to ground is charged by an internal current source of IRTON to program the soft-start interval for the controller. During a fault condition this capacitor is discharged by a current source equal to (See Datasheet)", 11 PGND (power) "The PGND should serve as the current return for the high-current output drivers OUT and AUX. Ideally, the current path from the outputs to the switching devices, and back would be as short as possible, and enclose a minimal (See Datasheet)", 12 AUX (out) "This output drives the auxiliary clamp MOSFET which is turned on when the main PWM switching device is turned off. The AUX pin can directly drive the auxiliary switch with 2-A source turn-on current and 2-A sink turn-off (See Datasheet)", 13 OUT (out) "This output pin drives the main PWM switching element MOSFET in an active clamp controller. It can directly drive an N-channel device with 2-A source turn-on current and 2-A sink turn-off current. A 10?k ohm resistor is (See Datasheet)", 14 VDD (power) "This is the power supply for the device. There should be a 1-uF capacitor directly from VDD to PGND. The capacitor value should be minimum 10 times greater than that on VREF. PGND and GND should be connected externally and (See Datasheet)", 15 LINEUV (in) "This pin provides a means to accurately enable/disable the power converter stage by monitoring the bulk input voltage or another parameter. When the circuit initially starts (or restarts from a disabled condition), a rising (See Datasheet)", 16 LINEOV (in) "For the UCC2892, provides the LINE overvoltage function."

## UCC2892PW
designator U?
Active Clamp PWM Controller with Current Control, -40 to +105 degC, 16-pin TSSOP (PW), Green (RoHS & no Sb/Br); PartNumber: UCC2892PW; Manufacturer: Texas Instruments; Frequency(Max)(kHz): 1000; Input Line Monitor: TRUE; Rating: Catalog; Regulated Outputs(#): 1; Topology: Flyback, Forward; UVLO Thresholds On/Off(V): 13.0/8.0; DatasheetVersion: SLUS542F; PackageVersion: revG, Feb-2011; PackageReference: PW16; PackageDescription: 16-Pin Plastic Thin Small Outline Package 5 x 4.4 mm Body ,0.65 mm Pitch; Supplier 1: Newark; Supplier Part Number 1: 87H4700; Supplier 2: Mouser; Supplier Part Number 2: 595-UCC2892PW; Control Method: Current; Eco-Plan: Green (RoHS & no Sb/Br); SubFamily: PWM Controller; Mounting Technology: Surface Mount; Code_JEDEC: MO-153; ComponentLink1Description: Datasheet; ComponentLink1URL: http://www.ti.com/general/docs/lit/getliterature.tsp?genericPartNumber=UCC2892&fileType=pdf
footprint PW16_N (TSOP, 16-Leads, Body 5x4.4mm, Pitch 0.65mm, IPC Medium Density)
footprint PW16_L (TSOP, 16-Leads, Body 5x4.4mm, Pitch 0.65mm, IPC High Density)
footprint PW16_M (TSOP, 16-Leads, Body 5x4.4mm, Pitch 0.65mm, IPC Low Density)
pins: 1 RTDEL "A resistor from this pin to GND programs the turn-on delay of the two gate drive outputs to accommodate the resonant transitions of the active clamp power converter.", 2 RTON "A resistor connected from this pin to GND programs an internal current source that charges the internal timing capacitor.", 3 RTOFF "A resistor connected from this pin to GND programs an internal current source that discharges the internal timing capacitor.", 4 VREF (out) "This is the 5-V reference voltage that can be utilized for an external load of up to 5 mA. Since this reference provides the supply rail for internal logic, it should be bypassed to AGND as close as possible to the device. (See Datasheet)", 5 SYNC (in) "The SYNC pin serves as a unidirectional synchronization input for the internal oscillator. The synchronization function is implemented such that the user programmable maximum duty cycle (set by RTON and RTOFF) remains (See Datasheet)", 6 GND (power) "This pin serves as the fundamental analog ground for the PWM control circuitry. This pin should be connected to PGND directly at the device.", 7 CS (in) "This pin is used to sense the peak current utilized for current mode control and for current limiting functions. The peak signal which can be applied to this pin before pulse-by-pulse current limiting activates is (See Datasheet)", 8 RSLOPE "A resistor connected from this pin to GND programs an internal current source that sets the slope compensation ramp for the current mode control circuitry.", 9 FB (in) "This pin is used to bring the error signal from an external optocoupler or error amplifier into the PWM control circuitry. Often, there is a resistor tied from FB to VREF, and an optocoupler is used to pull the control pin (See Datasheet)", 10 SS/SD (in) "A capacitor from SS/SD to ground is charged by an internal current source of IRTON to program the soft-start interval for the controller. During a fault condition this capacitor is discharged by a current source equal to (See Datasheet)", 11 PGND (power) "The PGND should serve as the current return for the high-current output drivers OUT and AUX. Ideally, the current path from the outputs to the switching devices, and back would be as short as possible, and enclose a minimal (See Datasheet)", 12 AUX (out) "This output drives the auxiliary clamp MOSFET which is turned on when the main PWM switching device is turned off. The AUX pin can directly drive the auxiliary switch with 2-A source turn-on current and 2-A sink turn-off (See Datasheet)", 13 OUT (out) "This output pin drives the main PWM switching element MOSFET in an active clamp controller. It can directly drive an N-channel device with 2-A source turn-on current and 2-A sink turn-off current. A 10-k ohm resistor is (See Datasheet)", 14 VDD (power) "This is the power supply for the device. There should be a 1-µF capacitor directly from VDD to PGND. The capacitor value should be minimum 10 times greater than that on VREF. PGND and GND should be connected externally and (See Datasheet)", 15 LINEUV (in) "This pin provides a means to accurately enable/disable the power converter stage by monitoring the bulk input voltage or another parameter. When the circuit initially starts (or restarts from a disabled condition), a rising (See Datasheet)", 16 LINEOV (in) "For the UCC2892, provides the LINE overvoltage function"